# EAGLE library part 74LCX541MTCX (library ICs)
Buffer / Line Driver, 3-State, 2 V to 3.6 V, TSSOP-20
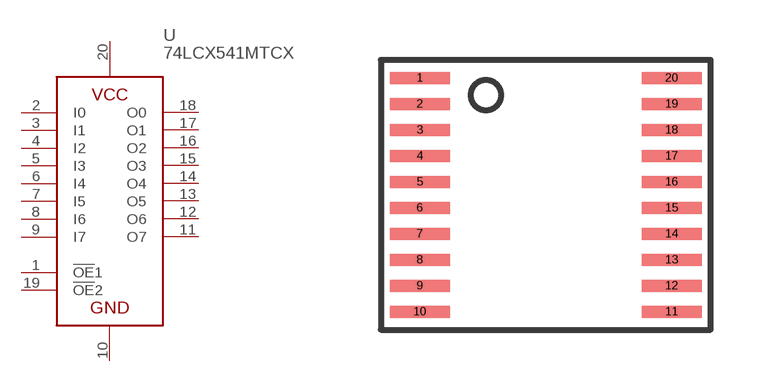
[diagram p113: symbol with the pads of SSOP20-4.5MM; footprint SSOP20-4.5MM]

Designator prefix U

## 74LCX541MTCX (FARNELL: 2452961; PRICE_PER: 0.338; VALUE: 74LCX541)  [SSOP20-4.5MM]
1  !OE!1
2  I0
3  I1
4  I2
5  I3
6  I4
7  I5
8  I6
9  I7
10  GND
11  O7
12  O6
13  O5
14  O4
15  O3
16  O2
17  O1
18  O0
19  !OE!2
20  VCC

## Footprint SSOP20-4.5MM (pad centres in mm)
smd 1.5 x 0.3: 1 -3.15,2.925; 2 -3.15,2.275; 3 -3.15,1.625; 4 -3.15,0.975; 5 -3.15,0.325; 6 -3.15,-0.325; 7 -3.15,-0.975; 8 -3.15,-1.625; 9 -3.15,-2.275; 10 -3.15,-2.925; 11 3.15,-2.925; 12 3.15,-2.275; 13 3.15,-1.625; 14 3.15,-0.975; 15 3.15,-0.325; 16 3.15,0.325; 17 3.15,0.975; 18 3.15,1.625; 19 3.15,2.275; 20 3.15,2.925